# EAGLE library part IC-MODULE-USB2SERIAL (library mylib)
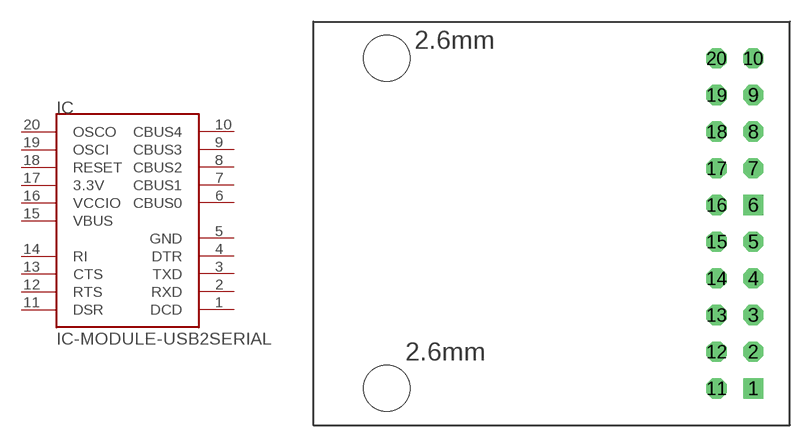
[diagram p35: symbol with the pads of IC-USB2SERIAL; footprint IC-USB2SERIAL]

Designator prefix IC

## IC-MODULE-USB2SERIAL  [IC-USB2SERIAL]
1  DCD
2  RXD
3  TXD
4  DTR
5  GND
6  CBUS0
7  CBUS1
8  CBUS2
9  CBUS3
10  CBUS4
11  DSR
12  RTS
13  CTS
14  RI
15  VBUS
16  VCCIO
17  3.3V
18  RESET
19  OSCI
20  OSCO

## Footprint IC-USB2SERIAL (pad centres in mm)
drill 0.9 square: 1 30.48,2.54; 6 30.48,15.24
drill 0.9 octagon: 2 30.48,5.08; 3 30.48,7.62; 4 30.48,10.16; 5 30.48,12.7; 7 30.48,17.78; 8 30.48,20.32; 9 30.48,22.86; 10 30.48,25.4; 11 27.94,2.54; 12 27.94,5.08; 13 27.94,7.62; 14 27.94,10.16; 15 27.94,12.7; 16 27.94,15.24; 17 27.94,17.78; 18 27.94,20.32; 19 27.94,22.86; 20 27.94,25.4
hole 3.2 at 5.08,25.4
hole 3.2 at 5.08,2.54